# Altium schematic symbol library 一体机V5.SCHLIB: 70 symbols (part 2 of 2)
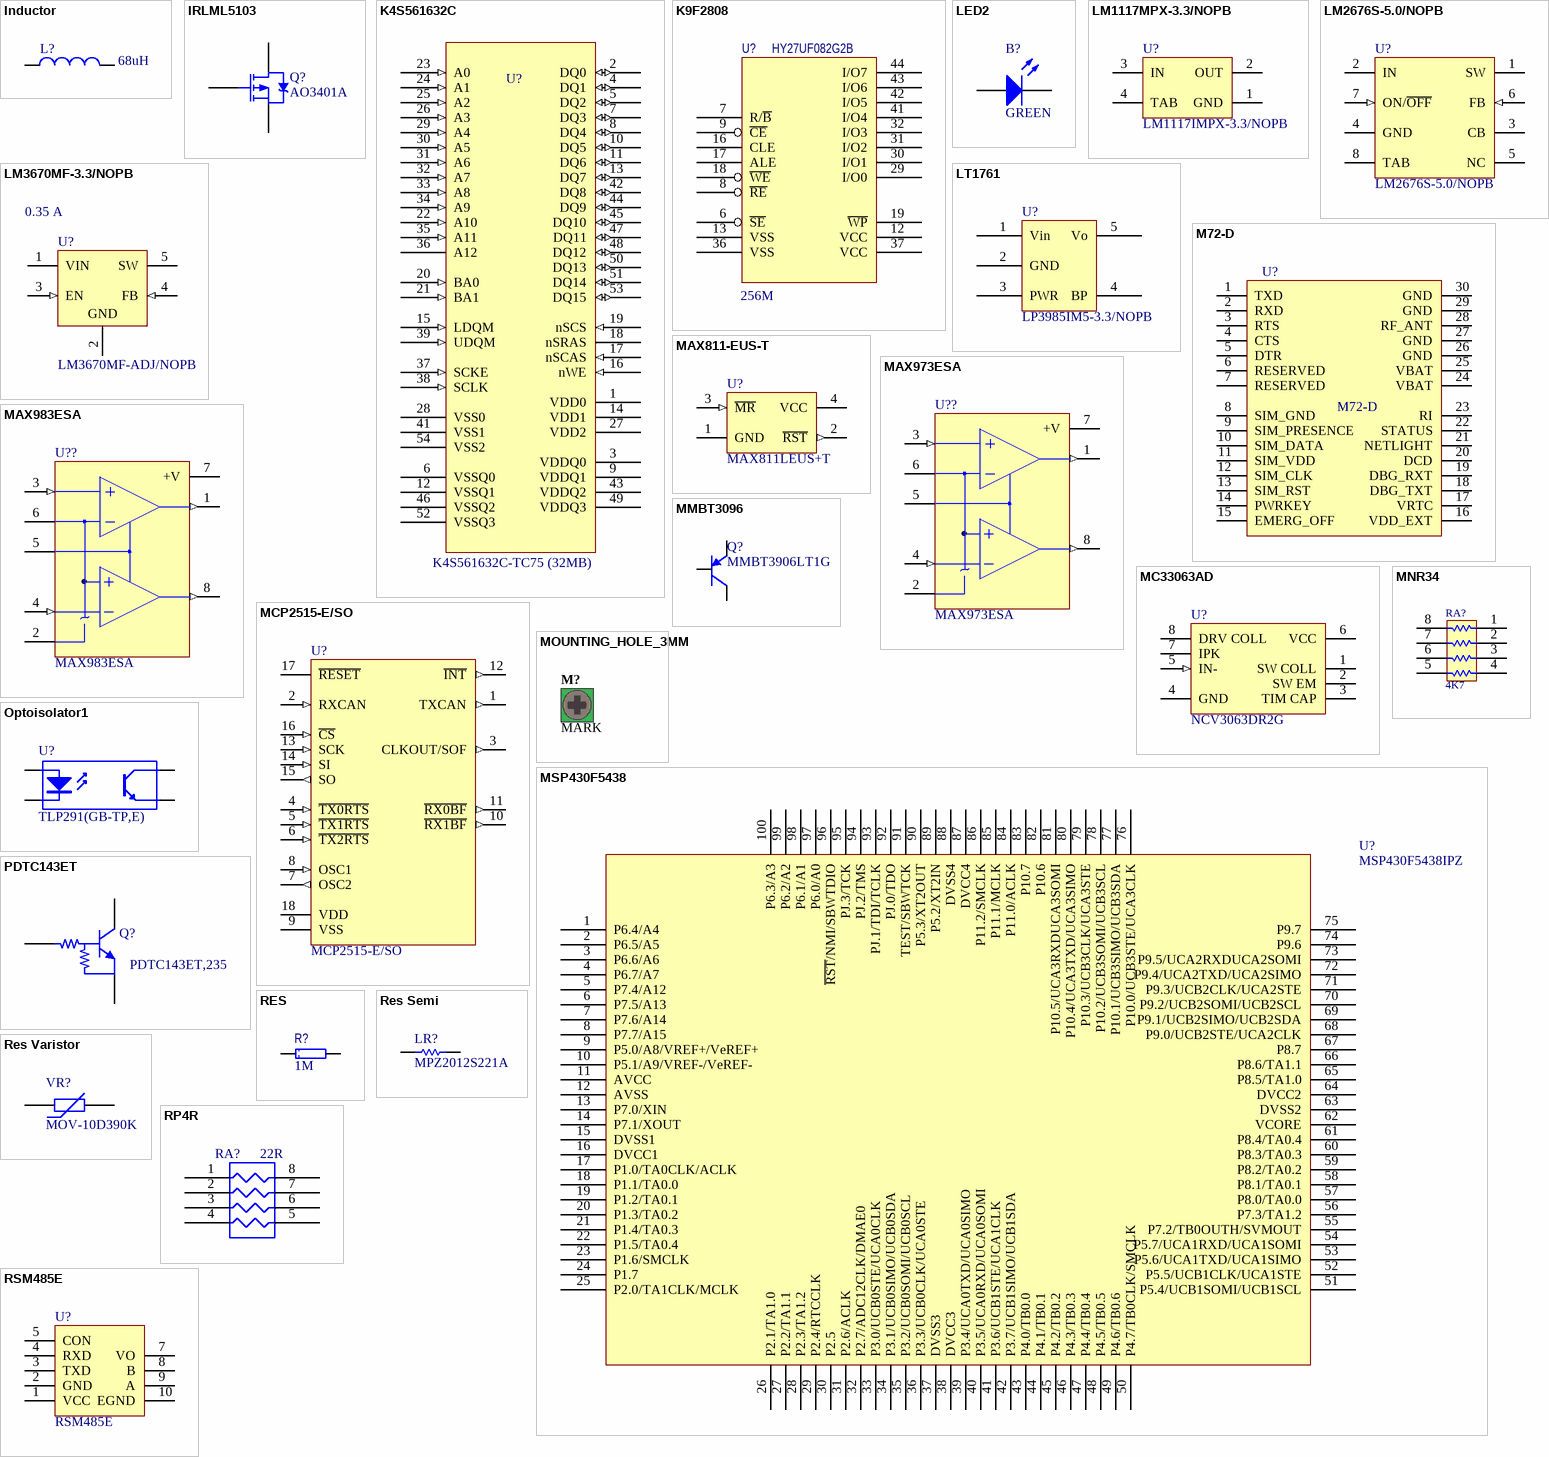
[diagram p4: symbols Inductor to RSM485E]

## PDTC143ET
designator Q?, comment PDTC143ET,235
开关晶体管 - 偏压电阻器 TRANS RET TAPE-11; Manufacturer: NXP Semiconductors; 集电极—发射极最大电压 VCEO: 50 V; 配置: Single; 封装 / 箱体: SOT-23-3; 封装: Reel; 安装风格: SMD/SMT; 晶体管极性: NPN; 制造商: NXP; 最大工作温度: + 150 C; 最小工作温度: - 65 C; 峰值直流集电极电流: 100 mA; 产品种类: Transistors - Arrays; 标准包装数量: 10000; 典型输入电阻器: 4.7 KOhms; 典型电阻器比率: 1; Supplier 1: Mouser; Supplier Part Number 1: 771-PDTC143ET235; Manufacturer Part Number: PDTC143ET,235; RoHS: RoHS Compliant; Description 1: 开关晶体管 - 偏压电阻器 TRANS RET TAPE-11; Category: 开关晶体管 - 偏压电阻器; Stock 1: 0; Pricing 1: 1=0.170, 25=0.151, 100=0.109, 250=0.064, 500=0.053, 1000=0.036, 3000=0.030, 6000=0.027, 10000=0.027, 12000=0.024 (USD); RoHS - 贸泽: Y; Minimum Order Quantity: 1; Reeling: True; ComponentLink1URL: http://www.mouser.com/ds/2/302/PDTC143E_SER-117621.pdf; ComponentLink1Description: http://www.mouser.com/ds/2/302/PDTC143E_SER-117621.pdf
footprint SOT23_N (SOT23, 3-Leads, Body 2.9x1.3mm, Pitch 0.95mm, Lead Span 2.3mm, IPC Medium Density)
simulation model PDTC143ET (SUBCKT)
signal-integrity model PDTC143ET
pins: 1 B, 2 E, 3 C

## RES
designator R?, comment value 1M  (hidden comment: CRCW06031M00FKEA)
厚膜电阻器 - SMD 1/10watt 1.0Mohms 1%; Manufacturer: Vishay / Dale; 尺寸: 0.85 mm W x 1.55 mm L x 0.45 mm H; 工作温度范围: - 55 C to + 155 C; 封装 / 箱体: 0603 (1608 metric); 封装: Reel; 功率额定值: 100 mW; 产品: Thick Film Resistors SMD; 电阻: 1 MOhms; 系列: CRCW; 温度系数: 100 PPM / K; 端接类型: SMD/SMT; 电压额定值: 75 V; 外壳代码 - in: 0603; 外壳代码 - mm: 1608; 制造商: Vishay; 产品种类: 0603 Thick Film Chip Resistors; 标准包装数量: 5000; Supplier 1: Mouser; Supplier Part Number 1: 71-CRCW0603-1.0M-E3; Manufacturer Part Number: CRCW06031M00FKEA; RoHS: RoHS Compliant By Exemption; Category: 厚膜电阻器 - SMD; Stock 1: 71394; Pricing 1: 1=0.080, 10=0.013, 100=0.010, 1000=0.008, 5000=0.005, 25000=0.004, 50000=0.003 (USD); 容差: 1 %; RoHS - 贸泽: E; Minimum Order Quantity: 1; Reeling: True; ComponentLink1URL: http://www.mouser.com/ds/2/427/dcrcwe3-109170.pdf; ComponentLink1Description: http://www.mouser.com/ds/2/427/dcrcwe3-109170.pdf; Description 1: 厚膜电阻器 - SMD 1/10watt 1.0Mohms 1%
footprint 1608[0603]R (Chip Resistor, Body 1.6x0.8mm, IPC Medium Density)
signal-integrity model RES (Model Description)
simulation model RES (Default semiconductor resistor)
pins: 1, 2

## Res Semi
designator LR?, comment MPZ2012S221A
电磁干扰滤波珠子、扼流圈和阵列 Ferrite Chip Beads; Manufacturer: TDK; 阻抗: 220 Ohms; 最大直流电流: 3 A; 最大直流电阻: 0.04 Ohms; 工作温度范围: - 55 C to + 125 C; 封装 / 箱体: 2012; 封装: Reel; 端接类型: SMD/SMT; 容差: 25 %; 产品种类: Ferrite Beads; 标准包装数量: 4000; Supplier 1: Mouser; Supplier Part Number 1: 810-MPZ2012S221A; Manufacturer Part Number: MPZ2012S221A; RoHS: RoHS Compliant; Description 1: 电磁干扰滤波珠子、扼流圈和阵列 Ferrite Chip Beads; Category: 电磁干扰滤波珠子、扼流圈和阵列; Stock 1: 26540; Pricing 1: 1=0.070, 50=0.060, 100=0.053, 500=0.040, 1000=0.035, 4000=0.031, 8000=0.029, 12000=0.025 (USD); 制造商: TDK; RoHS - 贸泽: Y; Minimum Order Quantity: 1; Reeling: True; ComponentLink1URL: http://www.mouser.com/ds/2/400/e9413_mpz-24582.pdf; ComponentLink1Description: http://www.mouser.com/ds/2/400/e9413_mpz-24582.pdf
footprint 2012[0805]
simulation model RES (Semiconductor Resistor)
signal-integrity model Res Semi
pins: 1, 2

## Res Varistor
designator VR?, comment MOV-10D390K
插针 压敏电阻 500A 39volts 10%; Manufacturer: Bourns; Description 1: 压敏电阻 2400pF 39volts 10%; 电容: 2400 pF; 钳位电压: 77 V; 直径: 10 mm; 尺寸: 12.5 mm Dia. x 7.2 mm W; 安装: Radial; 工作温度范围: - 40 C to + 85 C; 封装: Bulk; 浪涌能量额定值: 4.6 J; 电压额定值 DC: 43 V; 外壳直径: 12.5 mm; 外壳宽度: 7.2 mm; Supplier 1: Mouser; Supplier Part Number 1: 652-MOV-10D390K; Manufacturer Part Number: MOV-10D390K; RoHS: RoHS Compliant; Category: 压敏电阻; Stock 1: 13078; Pricing 1: 1=0.200, 10=0.165, 100=0.154, 250=0.137, 500=0.114, 1000=0.108, 5000=0.077, 10000=0.076 (USD); 容差: 10 %; 峰值浪涌电流: 500 A; 制造商: Bourns; RoHS - 贸泽: Y; Minimum Order Quantity: 1; Reeling: False; ComponentLink1URL: http://www.bourns.com/data/global/pdfs/MOV10D.pdf; ComponentLink1Description: http://www.bourns.com/data/global/pdfs/MOV10D.pdf; Supplier 2: Mouser; Supplier Part Number 2: 667-ERZ-V10D390
footprint RAD-0.3 (Radial Cap, Thru-Hole; 2 Leads; 0.3 in Pin Spacing)
pins: 1, 2

## RP4R
designator RA?, comment value 22R  (hidden comment: CRA06S08322R0JTA)
电阻器网络与阵列 8Term 22ohms 5% Convex; Manufacturer: Vishay / Dale; 尺寸: 1.5 mm W x 1.6 mm L x 0.5 mm H; 工作温度范围: - 55 C to + 150 C; 封装: Reel; 系列: CRA06; 温度系数: 200 PPM / K; 端接类型: SMD/SMT; 电路类型: Isolated; 管脚数量: 8; 电阻器数量: 4; 引线间隔: 0.8 mm; 制造商: Vishay; 产品种类: Thick Film Resistor Arrays; 产品类型: Arrays; Supplier 1: Mouser; Supplier Part Number 1: 71-CRA06S08322R0JTA; Manufacturer Part Number: CRA06S08322R0JTA; RoHS: RoHS Compliant By Exemption; Description 1: 电阻器网络与阵列 8Term 22ohms 5% Convex; Category: 电阻器网络与阵列; Stock 1: 1674; Pricing 1: 1=0.090, 100=0.080, 500=0.070, 1000=0.056, 5000=0.051, 10000=0.050, 25000=0.044 (USD); 容差: 5 %; 电阻数值: 22 Ohms; RoHS - 贸泽: E; Minimum Order Quantity: 1; Reeling: True; ComponentLink1URL: http://www.mouser.com/ds/2/427/cra06es-73101.pdf; ComponentLink1Description: http://www.mouser.com/ds/2/427/cra06es-73101.pdf
footprint R-AR4
pins: 1 R1, 2 R2, 3 R3, 4 R4, 5 R4, 6 R3, 7 R2, 8 R1

## RSM485E
designator U?
插针 集成电路; price1: 42.50
footprint DIP-9(10)W (DIP; 10 Leads; Row Spacing 15.24 mm; Pitch 2.54 mm)
pins: 1 VCC, 2 GND, 3 TXD, 4 RXD, 5 CON, 7 VO, 8 B, 9 A, 10 EGND

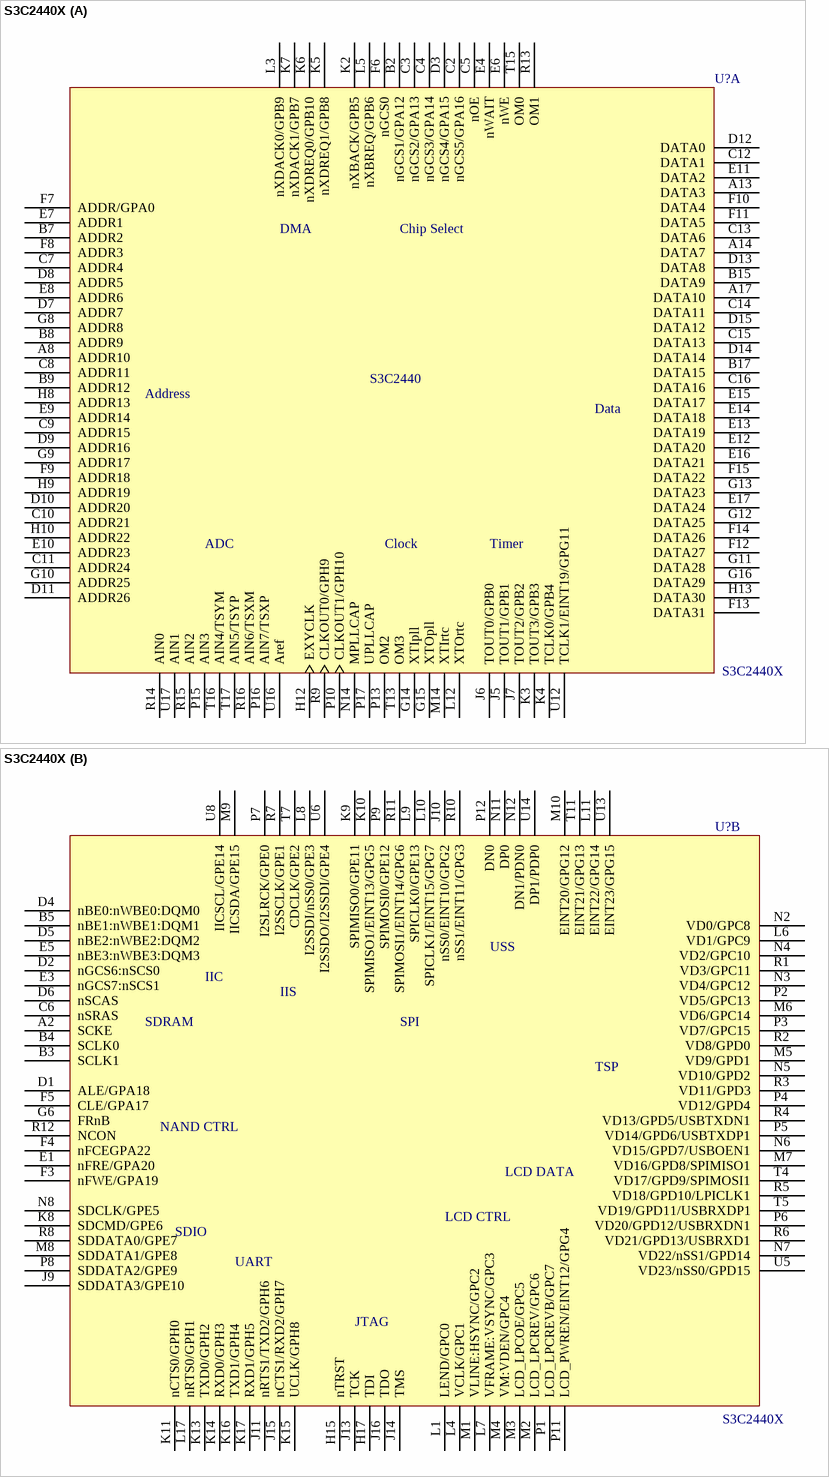
[diagram p2: symbol S3C2440X]

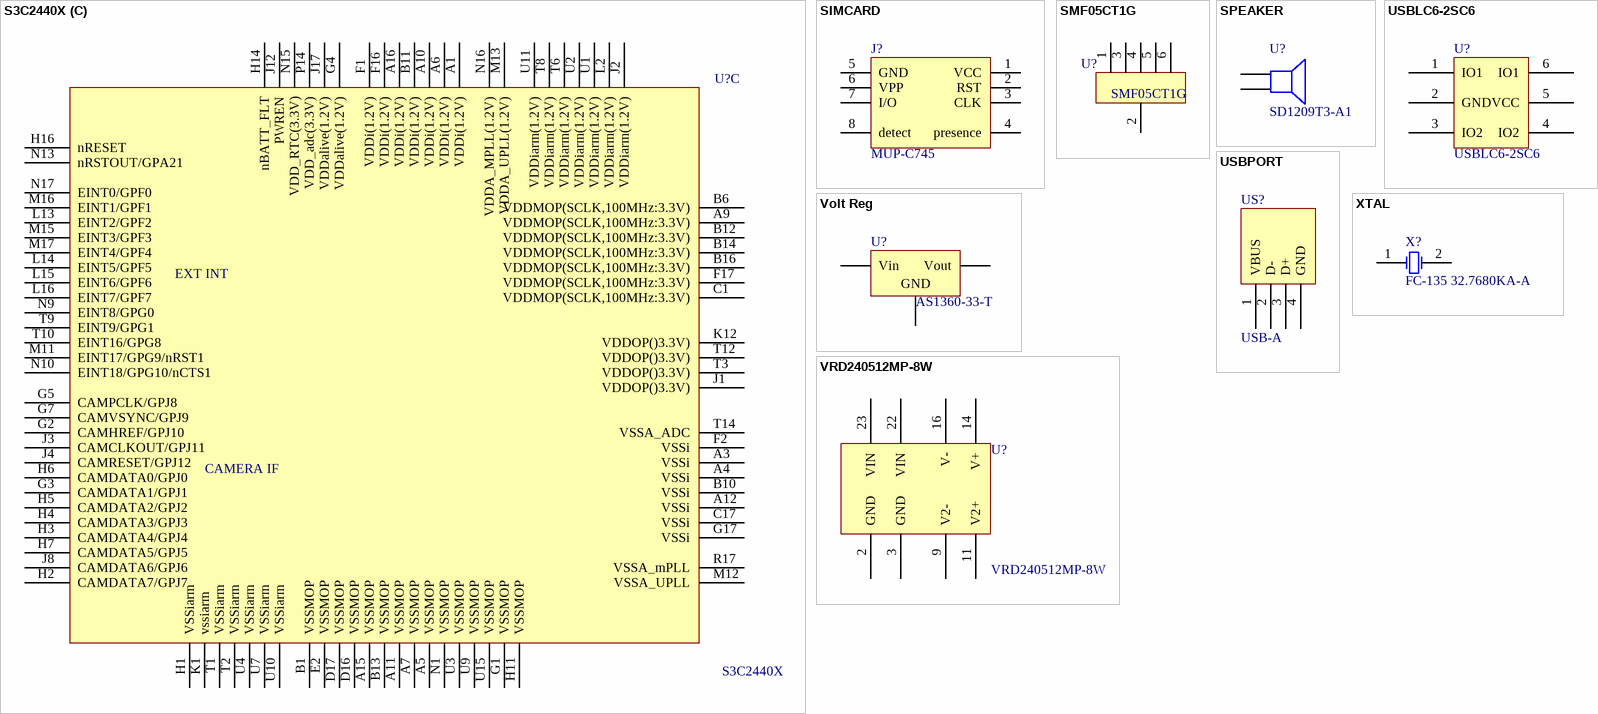
[diagram p3: symbols S3C2440X to XTAL]

## S3C2440X
designator U?
IC
footprint BGA289
part A pins: A8 ADDR10, A13 DATA3, A14 DATA7, A17 DATA10, B2 nGCS1/GPA12, B7 ADDR2, B8 ADDR9, B9 ADDR12, B15 DATA9, B17 DATA15, C2 nGCS5/GPA16, C3 nGCS2/GPA13, C4 nGCS3/GPA14, C5 nOE, C7 ADDR4, C8 ADDR11, C9 ADDR15, C10 ADDR21, C11 ADDR24, C12 DATA1, C13 DATA6, C14 DATA11, C15 DATA13, C16 DATA16, D3 nGCS4/GPA15, D7 ADDR7, D8 ADDR5, D9 ADDR16, D10 ADDR20, D11 ADDR26, D12 DATA0, D13 DATA8, D14 DATA14, D15 DATA12, E4 nWAIT, E6 nWE, E7 ADDR1, E8 ADDR6, E9 ADDR14, E10 ADDR23, E11 DATA2, E12 DATA20, E13 DATA19, E14 DATA18, E15 DATA17, E16 DATA21, E17 DATA24, F6 nGCS0, F7 ADDR/GPA0, F8 ADDR3, F9 ADDR18, F10 DATA4, F11 DATA5, F12 DATA27, F13 DATA31, F14 DATA26, F15 DATA22, G8 ADDR8, G9 ADDR17, G10 ADDR25, G11 DATA28, G12 DATA25, G13 DATA23, G14 XTIpll, G15 XTOpll, G16 DATA29, H8 ADDR13, H9 ADDR19, H10 ADDR22, H12 EXYCLK, H13 DATA30, J5 TOUT1/GPB1, J6 TOUT0/GPB0, J7 TOUT2/GPB2, K2 nXBACK/GPB5, K3 TOUT3/GPB3, K4 TCLK0/GPB4, K5 nXDREQ1/GPB8, K6 nXDREQ0/GPB10, K7 nXDACK1/GPB7, L3 nXDACK0/GPB9, L5 nXBREQ/GPB6, L12 XTOrtc, M14 XTIrtc, N14 MPLLCAP, P10 CLKOUT1/GPH10, P13 OM2, P15 AIN3, P16 AIN7/TSXP, P17 UPLLCAP, R9 CLKOUT0/GPH9, R13 OM1, R14 AIN0, R15 AIN2, R16 AIN6/TSXM, T13 OM3, T15 OM0, T16 AIN4/TSYM, T17 AIN5/TSYP, U12 TCLK1/EINT19/GPG11, U16 Aref, U17 AIN1
part B pins: A2 SCKE, B3 SCLK1, B4 SCLK0, B5 nBE1:nWBE1:DQM1, C6 nSRAS, D1 ALE/GPA18, D2 nGCS6:nSCS0, D4 nBE0:nWBE0:DQM0, D5 nBE2:nWBE2:DQM2, D6 nSCAS, E1 nFRE/GPA20, E3 nGCS7:nSCS1, E5 nBE3:nWBE3:DQM3, F3 nFWE/GPA19, F4 nFCEGPA22, F5 CLE/GPA17, G6 FRnB, H15 nTRST, H17 TDI, J9 SDDATA3/GPE10, J10 nSS0/EINT10/GPG2, J11 nRTS1/TXD2/GPH6, J13 TCK, J14 TMS, J15 nCTS1/RXD2/GPH7, J16 TDO, K8 SDCMD/GPE6, K9 SPIMISO0/GPE11, K10 SPIMISO1/EINT13/GPG5, K11 nCTS0/GPH0, K13 TXD0/GPH2, K14 RXD0/GPH3, K15 UCLK/GPH8, K16 TXD1/GPH4, K17 RXD1/GPH5, L1 LEND/GPC0, L4 VCLK/GPC1, L6 VD1/GPC9, L7 VFRAME:VSYNC/GPC3, L8 I2SSDI/nSS0/GPE3, L9 SPICLK0/GPE13, L10 SPICLK1/EINT15/GPG7, L11 EINT22/GPG14, L17 nRTS0/GPH1, M1 VLINE:HSYNC/GPC2, M2 LCD_LPCREV/GPC6, M3 LCD_LPCOE/GPC5, M4 VM:VDEN/GPC4, M5 VD9/GPD1, M6 VD6/GPC14, M7 VD16/GPD8/SPIMISO1, M8 SDDATA1/GPE8, M9 IICSDA/GPE15, M10 EINT20/GPG12, N2 VD0/GPC8, N3 VD4/GPC12, N4 VD2/GPC10, N5 VD10/GPD2, N6 VD15/GPD7/USBOEN1, N7 VD22/nSS1/GPD14, N8 SDCLK/GPE5, N11 DP0, N12 DN1/PDN0, P1 LCD_LPCREVB/GPC7, P2 VD5/GPC13, P3 VD7/GPC15, P4 VD12/GPD4, P5 VD14/GPD6/USBTXDP1, P6 VD20/GPD12/USBRXDN1, P7 I2SLRCK/GPE0, P8 SDDATA2/GPE9, P9 SPIMOSI0/GPE12, P11 LCD_PWREN/EINT12/GPG4, P12 DN0, R1 VD3/GPC11, R2 VD8/GPD0, R3 VD11/GPD3, R4 VD13/GPD5/USBTXDN1, R5 VD18/GPD10/LPICLK1, R6 VD21/GPD13/USBRXD1, R7 I2SSCLK/GPE1, R8 SDDATA0/GPE7, R10 nSS1/EINT11/GPG3, R11 SPIMOSI1/EINT14/GPG6, R12 NCON, T4 VD17/GPD9/SPIMOSI1, T5 VD19/GPD11/USBRXDP1, T7 CDCLK/GPE2, T11 EINT21/GPG13, U5 VD23/nSS0/GPD15, U6 I2SSDO/I2SSDI/GPE4, U8 IICSCL/GPE14, U13 EINT23/GPG15, U14 DP1/PDP0
part C pins: A1 VDDi(1.2V), A3 VSSi, A4 VSSi, A5 VSSMOP, A6 VDDi(1.2V), A7 VSSMOP, A9 VDDMOP(SCLK,100MHz:3.3V), A10 VDDi(1.2V), A11 VSSMOP, A12 VSSi, A15 VSSMOP, A16 VDDi(1.2V), B1 VSSMOP, B6 VDDMOP(SCLK,100MHz:3.3V), B10 VSSi, B11 VDDi(1.2V), B12 VDDMOP(SCLK,100MHz:3.3V), B13 VSSMOP, B14 VDDMOP(SCLK,100MHz:3.3V), B16 VDDMOP(SCLK,100MHz:3.3V), C1 VDDMOP(SCLK,100MHz:3.3V), C17 VSSi, D16 VSSMOP, D17 VSSMOP, E2 VSSMOP, F1 VDDi(1.2V), F2 VSSi, F16 VDDi(1.2V), F17 VDDMOP(SCLK,100MHz:3.3V), G1 VSSMOP, G2 CAMHREF/GPJ10, G3 CAMDATA1/GPJ1, G4 VDDalive(1.2V), G5 CAMPCLK/GPJ8, G7 CAMVSYNC/GPJ9, G17 VSSi, H1 VSSiarm, H2 CAMDATA7/GPJ7, H3 CAMDATA4/GPJ4, H4 CAMDATA3/GPJ3, H5 CAMDATA2/GPJ2, H6 CAMDATA0/GPJ0, H7 CAMDATA5/GPJ5, H11 VSSMOP, H14 nBATT_FLT, H16 nRESET, J1 VDDOP()3.3V), J2 VDDiarm(1.2V), J3 CAMCLKOUT/GPJ11, J4 CAMRESET/GPJ12, J8 CAMDATA6/GPJ6, J12 PWREN, J17 VDDalive(1.2V), K1 vssiarm, K12 VDDOP()3.3V), L2 VDDiarm(1.2V), L13 EINT2/GPF2, L14 EINT5/GPF5, L15 EINT6/GPF6, L16 EINT7/GPF7, M11 EINT17/GPG9/nRST1, M12 VSSA_UPLL, M13 VDDA_UPLL(1.2V), M15 EINT3/GPF3, M16 EINT1/GPF1, M17 EINT4/GPF4, N1 VSSMOP, N9 EINT8/GPG0, N10 EINT18/GPG10/nCTS1, N13 nRSTOUT/GPA21, N15 VDD_RTC(3.3V), N16 VDDA_MPLL(1.2V), N17 EINT0/GPF0, P14 VDD_adc(3.3V), R17 VSSA_mPLL, T1 VSSiarm, T2 VSSiarm, T3 VDDOP()3.3V), T6 VDDiarm(1.2V), T8 VDDiarm(1.2V), T9 EINT9/GPG1, T10 EINT16/GPG8, T12 VDDOP()3.3V), T14 VSSA_ADC, U1 VDDiarm(1.2V), U2 VDDiarm(1.2V), U3 VSSMOP, U4 VSSiarm, U7 VSSiarm, U9 VSSMOP, U10 VSSiarm, U11 VDDiarm(1.2V), U15 VSSMOP
part A text: DMA; Chip Select; S3C2440; Address; Data; ADC; Clock; Timer
part B text: USS; IIC; IIS; SDRAM; SPI; TSP; NAND CTRL; LCD DATA; LCD CTRL; SDIO; UART; JTAG
part C text: EXT INT; CAMERA IF

## SIMCARD
designator J?, comment MUP-C745
CON; 公司: MUP
footprint MUP-C745
footprint Amphenol C707
pins: 1 VCC, 2 RST, 3 CLK, 4 presence, 5 GND, 6 VPP, 7 I/O, 8 detect
2 alternate drawings of the same symbol

## SMF05CT1G
designator U?
TVS二极管阵列 5 Line TVS Array; Manufacturer: ON Semiconductor; 击穿电压: 6.2 V; 电容: 80 pF; 钳位电压: 12.5 V; 尺寸: 1.25 mm W x 2 mm L; 工作电压: 5 V; 封装 / 箱体: SC-70-6; 封装: Reel; 系列: SMFxxCT1G; 端接类型: SMD/SMT; 通道: 5 Channels; 峰值浪涌电流: 8 A; 最大工作温度: + 125 C; 最小工作温度: - 40 C; 峰值脉冲功率耗散: 100 W; 极性: Unidirectional; 产品种类: Diodes- Zener; 标准包装数量: 3000; Supplier 1: Mouser; Supplier Part Number 1: 863-SMF05CT1G; Manufacturer Part Number: SMF05CT1G; RoHS: RoHS Compliant; Description 1: TVS二极管阵列 5 Line TVS Array; Category: TVS二极管阵列; Stock 1: 6019; Pricing 1: 1=0.330, 25=0.285, 100=0.187, 500=0.155, 1000=0.116, 2000=0.107, 3000=0.107, 5000=0.100, 10000=0.093, 25000=0.086 (USD); 安装风格: SMD/SMT; 制造商: ON Semiconductor; RoHS - 贸泽: Y; Minimum Order Quantity: 1; Reeling: True; ComponentLink1URL: http://www.mouser.com/ds/2/308/SMF05C-D-100912.pdf; ComponentLink1Description: http://www.mouser.com/ds/2/308/SMF05C-D-100912.pdf
footprint SOT363-6N (SOT363, 6-Leads, Body 2x1.3mm, Pitch 0.65mm, Lead Span 2.1mm, IPC Medium Density)
pins: 1, 2, 3, 4, 5, 6
2 alternate drawings of the same symbol

## SPEAKER
designator U?, comment SD1209T3-A1
插针 BUZZER MAGNET 2048HZ 12MM PC MNT; Manufacturer: TDK Corporation; Driver Circuitry: Transducer, Externally Driven; Input Type: zero-peak Signal; Voltage - Rated: 3Vo-p; Voltage Range: 1 ~ 4V; Frequency: 2.048kHz; Operating Mode: Continuous; Sound Pressure Level: 89dB @ 3V, 10cm; Current - Supply: 60mA; Washable: No; Supplier 1: Digi-Key; Supplier Part Number 1: 445-2530-ND; Manufacturer Part Number: SD1209T3-A1; RoHS: RoHS Compliant; Description 1: BUZZER MAGNET 2048HZ 12MM PC MNT; Category: Audio Products; Stock 1: 1229; Pricing 1: 1=1.98, 10=1.726, 100=1.0869, 250=1.05496, 500=1.023, 1000=0.9271, 5000=0.83119, 10000=0.81521 (USD); Packaging: Tray; Technology: Magnetic; Mounting Type: Through Hole; Termination: PC Pins; Size / Dimension: Circular - 12.00mm Dia x 9.00mm H; Capacitance @ Frequency: -; Operating Temperature: -40°C ~ 85°C; ComponentLink1URL: http://www.tdk.co.jp/tefe02/ec211_sd.pdf; ComponentLink1Description: http://www.tdk.co.jp/tefe02/ec211_sd.pdf
footprint Speaker
pins: 1, 2

## USBLC6-2SC6
designator U?
TVS二极管阵列 ESD Protection Low Cap; Manufacturer: STMicroelectronics; 击穿电压: 6 V; 电容: 3.5 pF; 钳位电压: 17 V; 尺寸: 1.75 (Max) mm W x 3.05 (Max) mm L; 工作电压: 5 V; 封装 / 箱体: SOT-23-6; 封装: Reel; 端接类型: SMD/SMT; 通道: 2 Channels; 峰值浪涌电流: 5 A; 最大工作温度: + 125 C; 最小工作温度: - 40 C; 极性: Bidirectional; 产品种类: Voltage Protection Devices; 标准包装数量: 3000; Supplier 1: Mouser; Supplier Part Number 1: 511-USBLC6-2SC6; Manufacturer Part Number: USBLC6-2SC6; RoHS: RoHS Compliant; Description 1: TVS二极管阵列 ESD Protection Low Cap; Category: TVS二极管阵列; Stock 1: 42706; Pricing 1: 1=0.670, 10=0.590, 100=0.510, 250=0.490, 500=0.460, 1000=0.407, 3000=0.360, 6000=0.321 (USD); 系列: USBLC6-2; 安装风格: SMD/SMT; 制造商: STMicroelectronics; RoHS - 贸泽: Y; Minimum Order Quantity: 1; Reeling: True; ComponentLink1URL: http://www.st.com/web/en/resource/technical/document/datasheet/CD00050750.pdf; ComponentLink1Description: http://www.st.com/web/en/resource/technical/document/datasheet/CD00050750.pdf
footprint SOT26A-6N (SOT23, 6-Leads, Body 2.9x1.7mm, Pitch 0.95mm, Lead Span 2.8mm, IPC Medium Density)
pins: 1 IO1, 2 GND, 3 IO2, 4 IO2, 5 VCC, 6 IO1

## USBPORT
designator US?, comment USB-A
IC
footprint USB2.5-2H4C (Connector; USB1.1, Type A, Thru-Hole; 4 Position; Right Angle)
pins: 1 VBUS, 2 D-, 3 D+, 4 GND

## Volt Reg
designator U?, comment AS1360-33-T
LDO Voltage Controllers; Manufacturer: ams; Input Voltage MAX: 20 V; Output Current: 150 mA; Output Voltage: 3.3 V; Product Status: New at Mouser; Supplier 1: Mouser; Supplier Part Number 1: 985-AS1360-33-T; Manufacturer Part Number: AS1360-33-T; RoHS: RoHS Compliant; Category: LDO Voltage Controllers; Stock 1: 4086; Pricing 1: 1=1.82, 10=1.46, 100=1.12, 500=0.991, 1000=0.783, 2500=0.730, 5000=0.695, 10000=0.680 (AUD); Package / Case: SOT-23-3; Packaging: Reel; Mounting Style: SMD/SMT; Maximum Operating Temperature: + 85 C; Minimum Operating Temperature: - 40 C; RoHS - Mouser: Y; Minimum Order Quantity: 1; Reeling: True; ComponentLink1URL: http://ams.com/eng/content/download/1325/7334/424; ComponentLink1Description: http://ams.com/eng/content/download/1325/7334/424
footprint SOT23_N (SOT23, 3-Leads, Body 2.9x1.3mm, Pitch 0.95mm, Lead Span 2.3mm, IPC Medium Density)
footprint D2PAK_M (D2-PAK, 4-Leads, Body 8.8x10.4mm, Pitch 2.54mm, Lead Span 15.1mm, IPC Low Density)
pins: 1 GND, 2 Vout, 3 Vin

## VRD240512MP-8W
designator U?
插针VRD240512MP-8W 2:1 1500V 82%
footprint DIP-7(24)W
pins: 2 GND, 3 GND, 9 V2-, 11 V2+, 14 V+, 16 V-, 22 VIN, 23 VIN

## XTAL
designator X?, comment FC-135 32.7680KA-A
晶体 32.768KHz 20ppm 12.5pF -40C -85C; Manufacturer: Epson Toyocom; 尺寸: 1.5 mm W x 3.2 mm L x 0.8 mm H; 工作温度范围: - 40 C to + 85 C; 封装: Bulk; 系列: FC; 端接类型: SMD/SMT; ESR: 70 KOhms; 制造商: Epson; 产品种类: .; Supplier 1: Mouser; Supplier Part Number 1: 732-FC135-32.76KAA; Manufacturer Part Number: FC-135 32.7680KA-A; RoHS: RoHS Compliant; Description 1: 晶体 32.768KHz 20ppm 12.5pF -40C -85C; Category: 晶体; Stock 1: 0; Pricing 1: 1=1.16, 10=0.900, 100=0.855, 500=0.765, 1000=0.674, 2500=0.652, 5000=0.629, 10000=0.607 (USD); 频率: 32.768 kHz; 频率稳定性: 20 PPM; 负载电容: 12.5 pF; RoHS - 贸泽: Y; Minimum Order Quantity: 1; Reeling: False; ComponentLink1URL: http://www.eea.epson.com/portal/pls/portal/docs/1/1349455.PDF; ComponentLink1Description: http://www.eea.epson.com/portal/pls/portal/docs/1/1349455.PDF
footprint FC-135 (Quartz Crystal, SM; 2 Leads; Body 3.5 x 1.5 x 0.8mm (LxWxH))
simulation model XTAL (Spice Subcircuit)
pins: 1 OSC1, 2 OSC2